# EAGLE library part TCK42*G (library CustomParts)
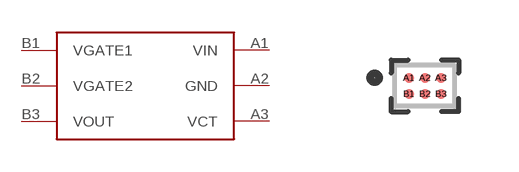
[diagram p10: symbol with the pads of BGA6N40P2X3_102X149X60; footprint BGA6N40P2X3_102X149X60]

Designator prefix -

## TCK42G  [BGA6N40P2X3_102X149X60]
A1  VIN  pwr
A2  GND  pwr
A3  VCT  in
B1  VGATE1  out
B2  VGATE2  out
B3  VOUT  out

## Footprint BGA6N40P2X3_102X149X60 (pad centres in mm)
smd 0.25 x 0.25: A1 -0.4,0.2; A2 0,0.2; A3 0.4,0.2; B1 -0.4,-0.2; B2 0,-0.2; B3 0.4,-0.2